# EAGLE library part 623326235321 (library Eagle_BOARD-TO-BOARD_CONNECTORS (rev18b))
WR-PHD 1.27mm Dual SMT Socket Header H=2.20mm,Bottom Entry, 26 Pins=>Code : Con_BTB_SHD_1.27_2_623326235321 <http://katalog.we-online.de/media/thumbs2/eican/thb_Con_BTB_SHD_1.27_2_6233xx235321_pf2.jpg> Details see: http://katalog.we-online.de/en/em/PHD_1_27_SMT_DUAL_SOCKET_HEADER_BOTTOM_ENTRY_REEL_6233XX235321 Created 2014-06-04, Karrer Zheng 2014 (C) Würth Elektronik
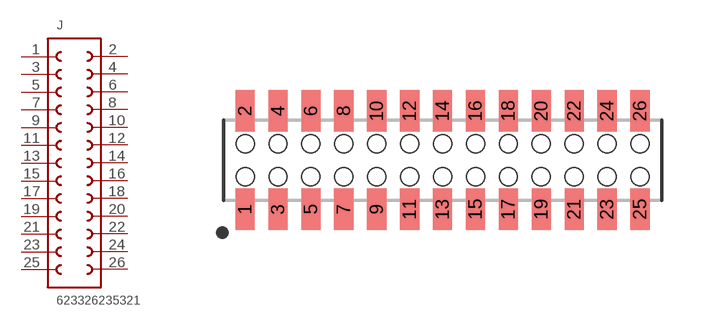
[diagram p301: symbol with the pads of 623326235321; footprint 623326235321]

Designator prefix J

## 623326235321  [623326235321]
1  1  pas
2  26  pas
3  2  pas
4  25  pas
5  3  pas
6  24  pas
7  4  pas
8  23  pas
9  5  pas
10  22  pas
11  6  pas
12  21  pas
13  7  pas
14  20  pas
15  8  pas
16  19  pas
17  9  pas
18  18  pas
19  10  pas
20  17  pas
21  11  pas
22  16  pas
23  12  pas
24  15  pas
25  13  pas
26  14  pas

## Footprint 623326235321 (pad centres in mm)
WR-PHD 1.27mm Dual SMT Socket Header H=2.20mm, Bottom Entry, 26 Pins
smd 0.74 x 1.6: 1 -7.62,-1.9; 2 -7.62,1.9; 3 -6.35,-1.9; 4 -6.35,1.9; 5 -5.08,-1.9; 6 -5.08,1.9; 7 -3.81,-1.9; 8 -3.81,1.9; 9 -2.54,-1.9; 10 -2.54,1.9; 11 -1.27,-1.9; 12 -1.27,1.9; 13 0,-1.9; 14 0,1.9; 15 1.27,-1.9; 16 1.27,1.9; 17 2.54,-1.9; 18 2.54,1.9; 19 3.81,-1.9; 20 3.81,1.9; 21 5.08,-1.9; 22 5.08,1.9; 23 6.35,-1.9; 24 6.35,1.9; 25 7.62,-1.9; 26 7.62,1.9
hole 0.7 at -7.62,0.635
hole 0.7 at -6.35,0.635
hole 0.7 at -5.08,0.635
hole 0.7 at -3.81,0.635
hole 0.7 at -2.54,0.635
hole 0.7 at -7.62,-0.635
hole 0.7 at -6.35,-0.635
hole 0.7 at -5.08,-0.635
hole 0.7 at -3.81,-0.635
hole 0.7 at -2.54,-0.635
hole 0.7 at -1.27,0.635
hole 0.7 at 0,0.635
hole 0.7 at 1.27,0.635
hole 0.7 at 2.54,0.635
hole 0.7 at 3.81,0.635
hole 0.7 at -1.27,-0.635
hole 0.7 at 0,-0.635
hole 0.7 at 1.27,-0.635
hole 0.7 at 2.54,-0.635
hole 0.7 at 3.81,-0.635
hole 0.7 at 5.08,0.635
hole 0.7 at 5.08,-0.635
hole 0.7 at 6.35,0.635
hole 0.7 at 6.35,-0.635
hole 0.7 at 7.62,0.635
hole 0.7 at 7.62,-0.635